# EAGLE library part XBEE (library robots)
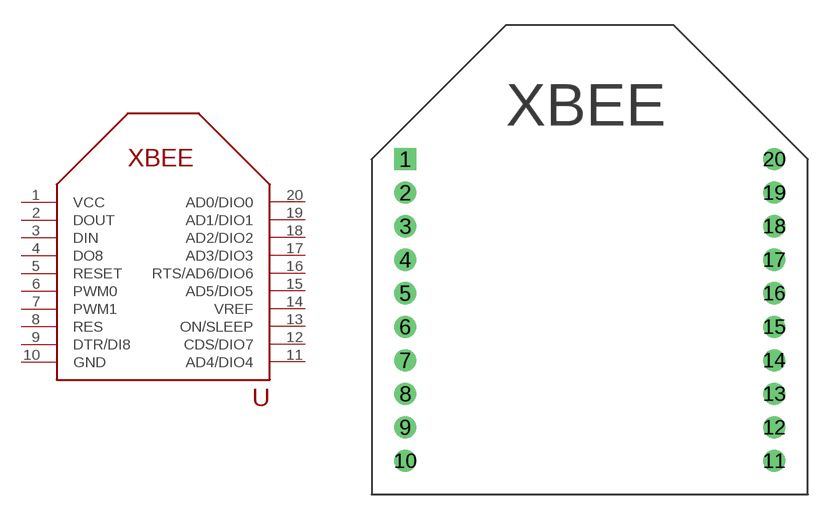
[diagram p3: symbol with the pads of XBEE; footprint XBEE]

Designator prefix -

## XBEE  [XBEE]
1  VCC
2  DOUT
3  DIN
4  DO8
5  RESET
6  PWM0
7  PWM1
8  RES
9  DTR/DI8
10  GND
11  AD4/DIO4
12  CDS/DIO7
13  ON/SLEEP
14  VREF
15  AD5/DIO5
16  RTS/AD6/DIO6
17  AD3/DIO3
18  AD2/DIO2
19  AD1/DIO1
20  AD0/DIO0

## Footprint XBEE (pad centres in mm)
drill 0.813 square: 1 0,0
drill 0.813 round: 2 0,-2; 3 0,-4; 4 0,-6; 5 0,-8; 6 0,-10; 7 0,-12; 8 0,-14; 9 0,-16; 10 0,-18; 11 22,-18; 12 22,-16; 13 22,-14; 14 22,-12; 15 22,-10; 16 22,-8; 17 22,-6; 18 22,-4; 19 22,-2; 20 22,0